# EAGLE library part AK455X (library xess)
AK455X Stereo Codec
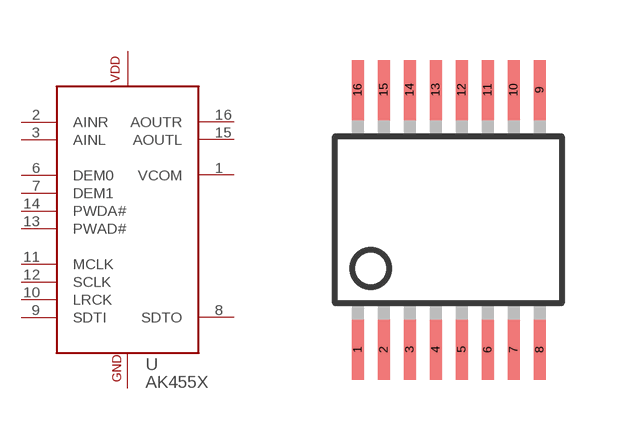
[diagram p3: symbol with the pads of TSSOP16; footprint TSSOP16]

Designator prefix -

## AK455X  [TSSOP16]
1  VCOM
2  AINR
3  AINL
4  GND  sup
5  VDD  pwr
6  DEM0
7  DEM1
8  SDTO
9  SDTI
10  LRCK
11  MCLK
12  SCLK
13  PWAD#
14  PWDA#
15  AOUTL
16  AOUTR

## Footprint TSSOP16 (pad centres in mm)
smd 0.3 x 1.5: 1 -1.95,-3.25; 2 -1.3,-3.25; 3 -0.65,-3.25; 4 0,-3.25; 5 0.65,-3.25; 6 1.3,-3.25; 7 1.95,-3.25; 8 2.6,-3.25; 9 2.6,3.25; 10 1.95,3.25; 11 1.3,3.25; 12 0.65,3.25; 13 0,3.25; 14 -0.65,3.25; 15 -1.3,3.25; 16 -1.95,3.25